# EAGLE library part BTM-T1-C (library BTM-T1-C)
TTL Bluetooth Serial Module Class 1 (Model: BTM-T1-C)
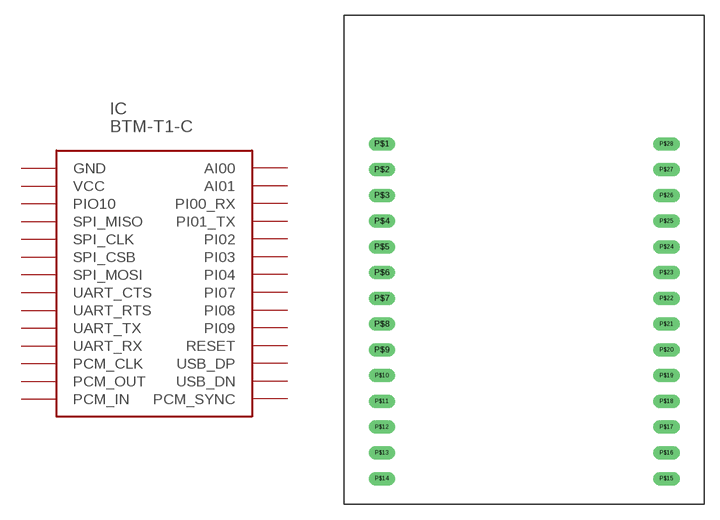
[diagram p0: symbol with the pads of BTM-T1-C; footprint BTM-T1-C]

Designator prefix IC

## BTM-T1-C  [BTM-T1-C]
P$1  GND  pas
P$2  VCC  pas
P$3  PIO10
P$4  SPI_MISO  out
P$5  SPI_CLK  in
P$6  SPI_CSB  in
P$7  SPI_MOSI  in
P$8  UART_CTS  in
P$9  UART_RTS  out
P$10  UART_TX  out
P$11  UART_RX  in
P$12  PCM_CLK
P$13  PCM_OUT  out
P$14  PCM_IN  in
P$15  PCM_SYNC
P$16  USB_DN
P$17  USB_DP
P$18  RESET  in
P$19  PI09
P$20  PI08
P$21  PI07
P$22  PI04
P$23  PI03
P$24  PI02
P$25  PI01_TX
P$26  PI00_RX
P$27  AI01
P$28  AI00

## Footprint BTM-T1-C (pad centres in mm)
drill 0.8 long: P$1 -14.04,15.24; P$2 -14.04,12.7; P$3 -14.04,10.16; P$4 -14.04,7.62; P$5 -14.04,5.08; P$6 -14.04,2.54; P$7 -14.04,0; P$8 -14.04,-2.54; P$9 -14.04,-5.08; P$10 -14.04,-7.62; P$11 -14.04,-10.16; P$12 -14.04,-12.7; P$13 -14.04,-15.24; P$14 -14.04,-17.78; P$15 14.04,-17.78; P$16 14.04,-15.24; P$17 14.04,-12.7; P$18 14.04,-10.16; P$19 14.04,-7.62; P$20 14.04,-5.08; P$21 14.04,-2.54; P$22 14.04,0; P$23 14.04,2.54; P$24 14.04,5.08; P$25 14.04,7.62; P$26 14.04,10.16; P$27 14.04,12.7; P$28 14.04,15.24